# EAGLE library part LTC3566 (library linear-technology)
LTC3566 High Efficiency USB Power Manager Plus 1A Buck-Boost Converter
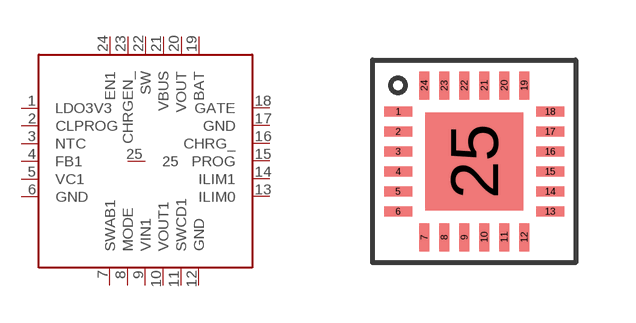
[diagram p33: symbol with the pads of QFN24-4X4; footprint QFN24-4X4]

Designator prefix -

## LTC3566  [QFN24-4X4]
1  LDO3V3
2  CLPROG
3  NTC
4  FB1
5  VC1
6  GND
7  SWAB1
8  MODE
9  VIN1
10  VOUT1
11  SWCD1
12  GND
13  ILIM0
14  ILIM1
15  PROG
16  CHRG_
17  GND
18  GATE
19  BAT
20  VOUT
21  VBUS
22  SW
23  CHRGEN_
24  EN1
25  25

## Footprint QFN24-4X4 (pad centres in mm)
smd 0.7 x 0.25: 1 -1.9,1.25; 2 -1.9,0.75; 3 -1.9,0.25; 4 -1.9,-0.25; 5 -1.9,-0.75; 6 -1.9,-1.25; 13 1.9,-1.25; 14 1.9,-0.75; 15 1.9,-0.25; 16 1.9,0.25; 17 1.9,0.75; 18 1.9,1.25
smd 0.25 x 0.7: 7 -1.25,-1.9; 8 -0.75,-1.9; 9 -0.25,-1.9; 10 0.25,-1.9; 11 0.75,-1.9; 12 1.25,-1.9; 19 1.25,1.9; 20 0.75,1.9; 21 0.25,1.9; 22 -0.25,1.9; 23 -0.75,1.9; 24 -1.25,1.9
smd 2.45 x 2.45: 25 0,0